# EAGLE library part STM32F072C*T (library micro-stm)
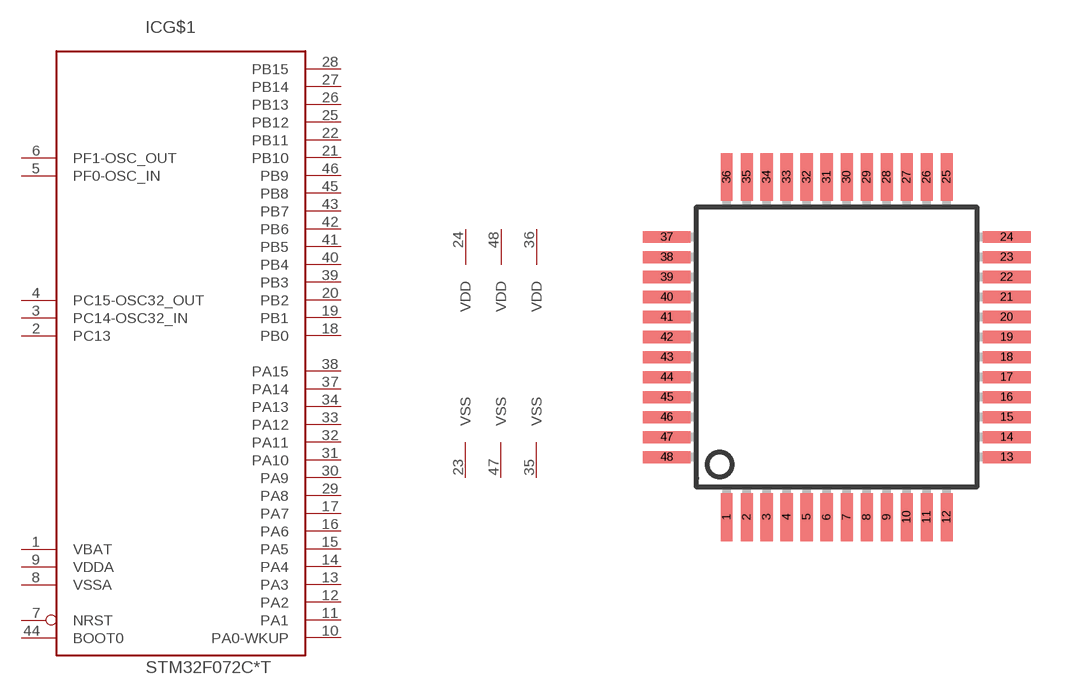
[diagram p178: symbol with the pads of LQFP48; footprint LQFP48]

Designator prefix IC; gates G$1=STM32_48PIN_TYP12 G$2=PWR_VDD3_VSS3

## STM32F072C8T, STM32F072CBT  [LQFP48]
1  G$1:VBAT  pwr
2  G$1:PC13
3  G$1:PC14-OSC32_IN
4  G$1:PC15-OSC32_OUT
5  G$1:PF0-OSC_IN
6  G$1:PF1-OSC_OUT
7  G$1:NRST
8  G$1:VSSA  pwr
9  G$1:VDDA  pwr
10  G$1:PA0-WKUP
11  G$1:PA1
12  G$1:PA2
13  G$1:PA3
14  G$1:PA4
15  G$1:PA5
16  G$1:PA6
17  G$1:PA7
18  G$1:PB0
19  G$1:PB1
20  G$1:PB2
21  G$1:PB10
22  G$1:PB11
23  G$2:VSS  pwr
24  G$2:VDD  pwr
25  G$1:PB12
26  G$1:PB13
27  G$1:PB14
28  G$1:PB15
29  G$1:PA8
30  G$1:PA9
31  G$1:PA10
32  G$1:PA11
33  G$1:PA12
34  G$1:PA13
35  G$2:VSS  pwr
36  G$2:VDD  pwr
37  G$1:PA14
38  G$1:PA15
39  G$1:PB3
40  G$1:PB4
41  G$1:PB5
42  G$1:PB6
43  G$1:PB7
44  G$1:BOOT0  in
45  G$1:PB8
46  G$1:PB9
47  G$2:VSS  pwr
48  G$2:VDD  pwr

## Footprint LQFP48 (pad centres in mm)
LQFP48 7 x 7 mm, 48-pin low-profile quad flat package
smd 0.3 x 1.2: 1 -2.75,-4.25; 2 -2.25,-4.25; 3 -1.75,-4.25; 4 -1.25,-4.25; 5 -0.75,-4.25; 6 -0.25,-4.25; 7 0.25,-4.25; 8 0.75,-4.25; 9 1.25,-4.25; 10 1.75,-4.25; 11 2.25,-4.25; 12 2.75,-4.25; 25 2.75,4.25; 26 2.25,4.25; 27 1.75,4.25; 28 1.25,4.25; 29 0.75,4.25; 30 0.25,4.25; 31 -0.25,4.25; 32 -0.75,4.25; 33 -1.25,4.25; 34 -1.75,4.25; 35 -2.25,4.25; 36 -2.75,4.25
smd 1.2 x 0.3: 13 4.25,-2.75; 14 4.25,-2.25; 15 4.25,-1.75; 16 4.25,-1.25; 17 4.25,-0.75; 18 4.25,-0.25; 19 4.25,0.25; 20 4.25,0.75; 21 4.25,1.25; 22 4.25,1.75; 23 4.25,2.25; 24 4.25,2.75; 37 -4.25,2.75; 38 -4.25,2.25; 39 -4.25,1.75; 40 -4.25,1.25; 41 -4.25,0.75; 42 -4.25,0.25; 43 -4.25,-0.25; 44 -4.25,-0.75; 45 -4.25,-1.25; 46 -4.25,-1.75; 47 -4.25,-2.25; 48 -4.25,-2.75